# Altium footprint library SOT23-3_IPC_A.PcbLib: 1 footprints
Each footprint in its own frame and in the unit in brackets; x right, y up, seen from the top. Pads: shape width x height; smd on the part's side, far side on the other; paste and mask are expansions set on the pad; w line width, h text height; cw(c..) or ccw(c..) is an arc to the next point about the centre after c.
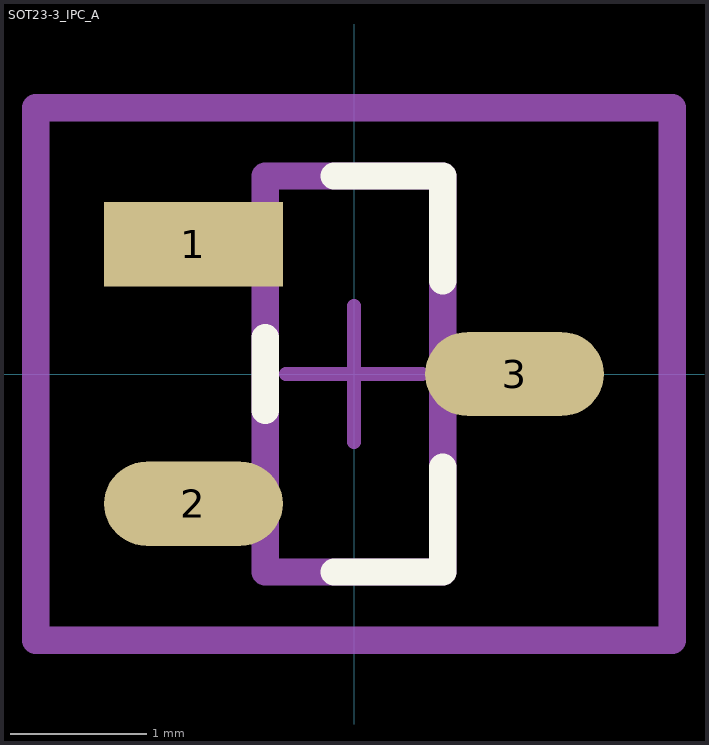
[diagram p0: the footprint, top view; thin cyan lines are the x and y axes]

## SOT23-3_IPC_A [mm]
pads (3):
  rect 1.308x0.616 smd paste+0 mask+0: 1(-1.175,0.95)
  rrect100% 1.308x0.616 smd paste+0 mask+0: 2(-1.175,-0.95) 3(1.175,0)
Top Overlay:
  lines w0.2: -0.65,-0.267 -0.65,0.267 ; -0.146,-1.45 0.65,-1.45 0.65,-0.683 ; -0.146,1.45 0.65,1.45 0.65,0.683
Top 3D Body:
  lines w0.2: -0.65,-1.45 0.65,-1.45 0.65,1.45 -0.65,1.45 -0.65,-1.45
Top Assembly:
  lines w0.2: -2.329,-1.95 2.329,-1.95 2.329,1.95 -2.329,1.95 -2.329,-1.95
  text ".Designator" at 0,-0.001 h1
Top Component Center:
  lines w0.1: -0.5,0 0.5,0 ; 0,-0.5 0,0.5
Top Courtyard:
  lines w0.2: -2.329,-1.95 2.329,-1.95 2.329,1.95 -2.329,1.95 -2.329,-1.95
3D body "Trans_Infineon_BCW65A_eec.STEP": height 0.25, standoff 0, extent -2.329,-1.95 2.329,1.95